# Altium footprint library PCB - SPRING PROBE - Mill-Max 0914-0-15-20-77-14-11-0.PCBLIB: 1 footprints
Each footprint in its own frame and in the unit in brackets; x right, y up, seen from the top. Pads: shape width x height; smd on the part's side, far side on the other; paste and mask are expansions set on the pad; w line width, h text height; cw(c..) or ccw(c..) is an arc to the next point about the centre after c.
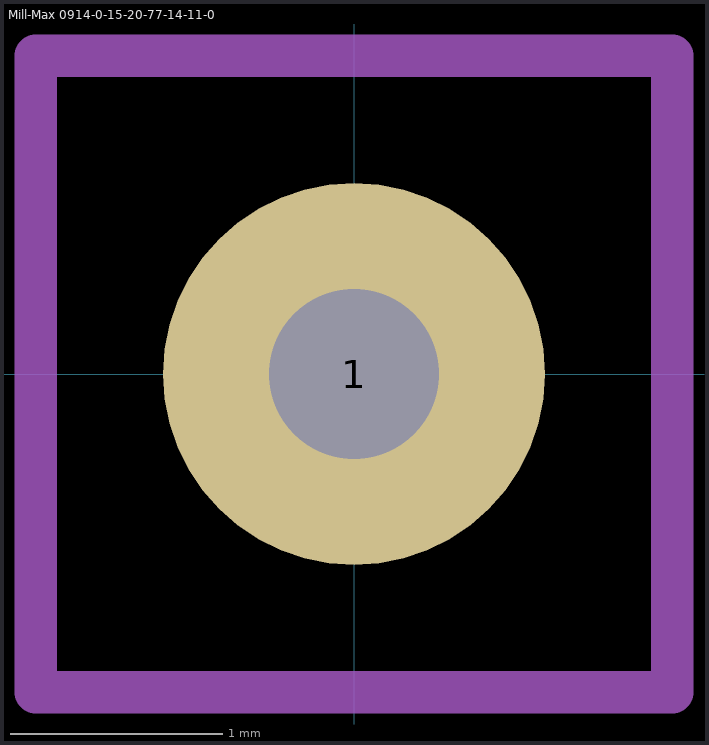
[diagram p0: the footprint, top view; thin cyan lines are the x and y axes]

## Mill-Max 0914-0-15-20-77-14-11-0 [mm]
height 8.202
pads (1):
  round 1.8 hole 0.8: 1(0,0)
Mechanical 15:
  lines w0.2: -0.508,0 0.508,0 ; 0,-0.508 0,0.508 ; -1.5,-1.5 1.5,-1.5 1.5,1.5 -1.5,1.5 -1.5,-1.5
3D body "mill-max-0914-0-15-20-77-14-11-0.step": height 7.67, standoff -2.92, extent -0.914,-0.908 0.914,0.908